# EAGLE library part ATMEGA324 (library avr_modified)
MICROCONTROLLER 32 Kbytes FLASH 1 kBytes SRAM 1 kBytes EEPROM DUAL USART 8-channel 10 bit ADC
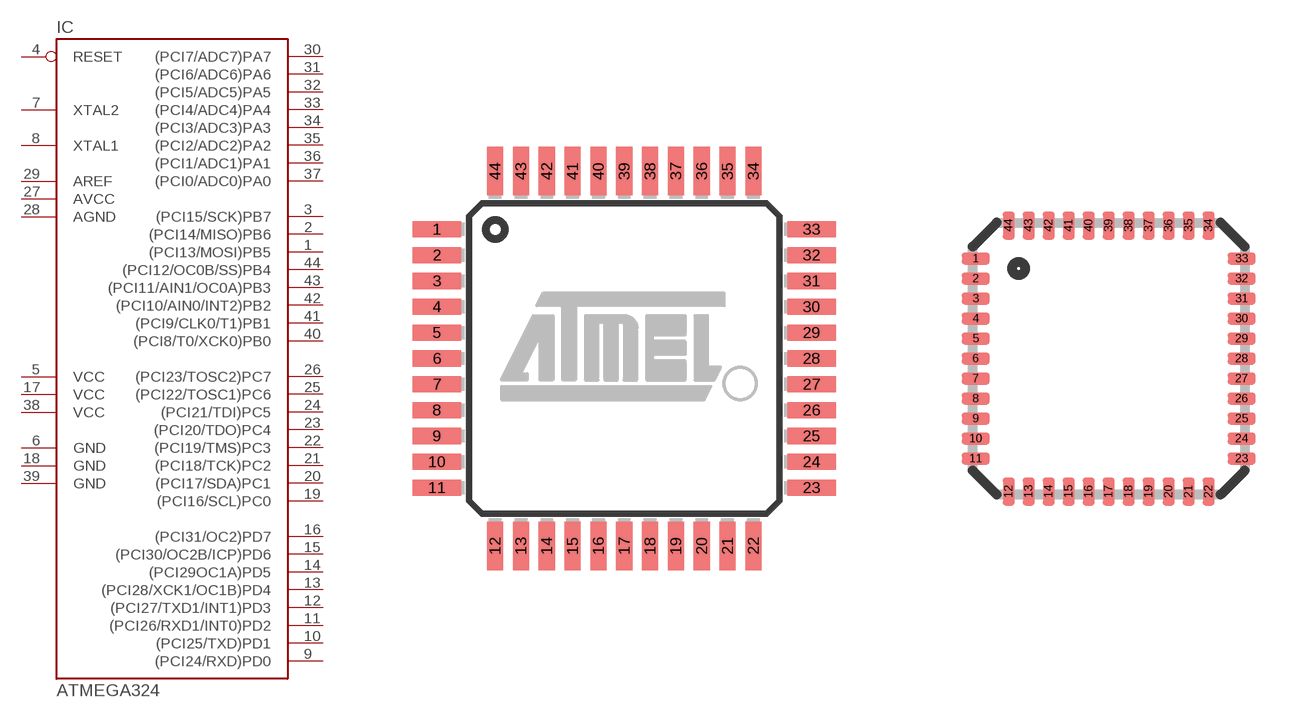
[diagram p48: symbol with the pads of TQFP44; footprints TQFP44, MLF44]

Designator prefix IC

## ATMEGA324-20A, ATMEGA324V-10A  [TQFP44]
1  (PCI13/MOSI)PB5
2  (PCI14/MISO)PB6
3  (PCI15/SCK)PB7
4  RESET  in
5  VCC  pwr
6  GND  pwr
7  XTAL2
8  XTAL1
9  (PCI24/RXD)PD0
10  (PCI25/TXD)PD1
11  (PCI26/RXD1/INT0)PD2
12  (PCI27/TXD1/INT1)PD3
13  (PCI28/XCK1/OC1B)PD4
14  (PCI29OC1A)PD5
15  (PCI30/OC2B/ICP)PD6
16  (PCI31/OC2)PD7
17  VCC  pwr
18  GND  pwr
19  (PCI16/SCL)PC0
20  (PCI17/SDA)PC1
21  (PCI18/TCK)PC2
22  (PCI19/TMS)PC3
23  (PCI20/TDO)PC4
24  (PCI21/TDI)PC5
25  (PCI22/TOSC1)PC6
26  (PCI23/TOSC2)PC7
27  AVCC  pwr
28  AGND  pwr
29  AREF  pwr
30  (PCI7/ADC7)PA7
31  (PCI6/ADC6)PA6
32  (PCI5/ADC5)PA5
33  (PCI4/ADC4)PA4
34  (PCI3/ADC3)PA3
35  (PCI2/ADC2)PA2
36  (PCI1/ADC1)PA1
37  (PCI0/ADC0)PA0
38  VCC  pwr
39  GND  pwr
40  (PCI8/T0/XCK0)PB0
41  (PCI9/CLK0/T1)PB1
42  (PCI10/AIN0/INT2)PB2
43  (PCI11/AIN1/OC0A)PB3
44  (PCI12/OC0B/SS)PB4

## ATMEGA324-20M, ATMEGA324V-10M  [MLF44]
Pads as for TQFP44

## Footprint TQFP44 (pad centres in mm)
Thin Plasic Quad Flat Package
smd 1.5 x 0.5: 1 -5.8,4; 2 -5.8,3.2; 3 -5.8,2.4; 4 -5.8,1.6; 5 -5.8,0.8; 6 -5.8,0; 7 -5.8,-0.8; 8 -5.8,-1.6; 9 -5.8,-2.4; 10 -5.8,-3.2; 11 -5.8,-4; 23 5.8,-4; 24 5.8,-3.2; 25 5.8,-2.4; 26 5.8,-1.6; 27 5.8,-0.8; 28 5.8,0; 29 5.8,0.8; 30 5.8,1.6; 31 5.8,2.4; 32 5.8,3.2; 33 5.8,4
smd 0.5 x 1.5: 12 -4,-5.8; 13 -3.2,-5.8; 14 -2.4,-5.8; 15 -1.6,-5.8; 16 -0.8,-5.8; 17 0,-5.8; 18 0.8,-5.8; 19 1.6,-5.8; 20 2.4,-5.8; 21 3.2,-5.8; 22 4,-5.8; 34 4,5.8; 35 3.2,5.8; 36 2.4,5.8; 37 1.6,5.8; 38 0.8,5.8; 39 0,5.8; 40 -0.8,5.8; 41 -1.6,5.8; 42 -2.4,5.8; 43 -3.2,5.8; 44 -4,5.8

## Footprint MLF44 (pad centres in mm)
44M1 Micro Lead Frame package (MLF)
smd 0.7 x 0.3: 1 -3.325,2.5; 2 -3.325,2; 3 -3.325,1.5; 4 -3.325,1; 5 -3.325,0.5; 6 -3.325,0; 7 -3.325,-0.5; 8 -3.325,-1; 9 -3.325,-1.5; 10 -3.325,-2; 11 -3.325,-2.5; 23 3.325,-2.5; 24 3.325,-2; 25 3.325,-1.5; 26 3.325,-1; 27 3.325,-0.5; 28 3.325,0; 29 3.325,0.5; 30 3.325,1; 31 3.325,1.5; 32 3.325,2; 33 3.325,2.5
smd 0.3 x 0.7: 12 -2.5,-3.325; 13 -2,-3.325; 14 -1.5,-3.325; 15 -1,-3.325; 16 -0.5,-3.325; 17 0,-3.325; 18 0.5,-3.325; 19 1,-3.325; 20 1.5,-3.325; 21 2,-3.325; 22 2.5,-3.325; 34 2.5,3.325; 35 2,3.325; 36 1.5,3.325; 37 1,3.325; 38 0.5,3.325; 39 0,3.325; 40 -0.5,3.325; 41 -1,3.325; 42 -1.5,3.325; 43 -2,3.325; 44 -2.5,3.325